# Altium schematic symbol library 1Mohm.SchLib: 1 symbol
Pins are listed as number, name and electrical type; pins without a type are passive.

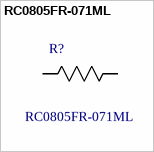
[diagram p0: symbol RC0805FR-071ML]

## RC0805FR-071ML
designator R?
RES SMD 1M OHM 1% 1/8W 0805; MF: Yageo; Digi-Key_Purchase_URL: https://www.digikey.ca/product-detail/en/yageo/RC0805FR-071ML/311-1.00MCRCT-ND/730392?WT.z_cid=ref_snapeda&utm_source=snapeda&utm_medium=aggregator&utm_campaign=buynow; MP: RC0805FR-071ML; Digi-Key_Part_Number: 311-1.00MCRCT-ND; Package: 0805 Yageo; Value: *
footprint RESC2013X65N
pins: 1 R1, 2 R2